# EAGLE library part BC857DS (library joakim)
PNP double transistor in an SOT457 (SC-74) plastic package. AAL Eindhoven MK
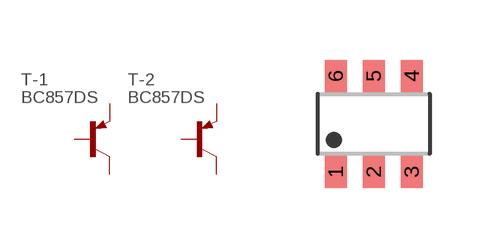
[diagram p35: symbol with the pads of SOT457J; footprint SOT457J]

Designator prefix T; gates -1=PNP-1 -2=PNP-1

## BC857DS  [SOT457J]
1  -1:E  pas
2  -1:B  pas
3  -2:C  pas
4  -2:E  pas
5  -2:B  pas
6  -1:C  pas

## Footprint SOT457J (pad centres in mm)
SOT457 TSOP6: Plastic surface-mounted package; 6 lead JEIDA: SC73 A.K.A. SOT23-6
smd 0.55 x 0.8: 1 -0.95,-1.2; 2 0,-1.2; 3 0.95,-1.2; 4 0.95,1.2; 5 0,1.2; 6 -0.95,1.2